# Altium schematic symbol library JBC-Soldering-Controller.SCHLIB: 20 symbols
Pins are listed as number, name and electrical type; pins without a type are passive.

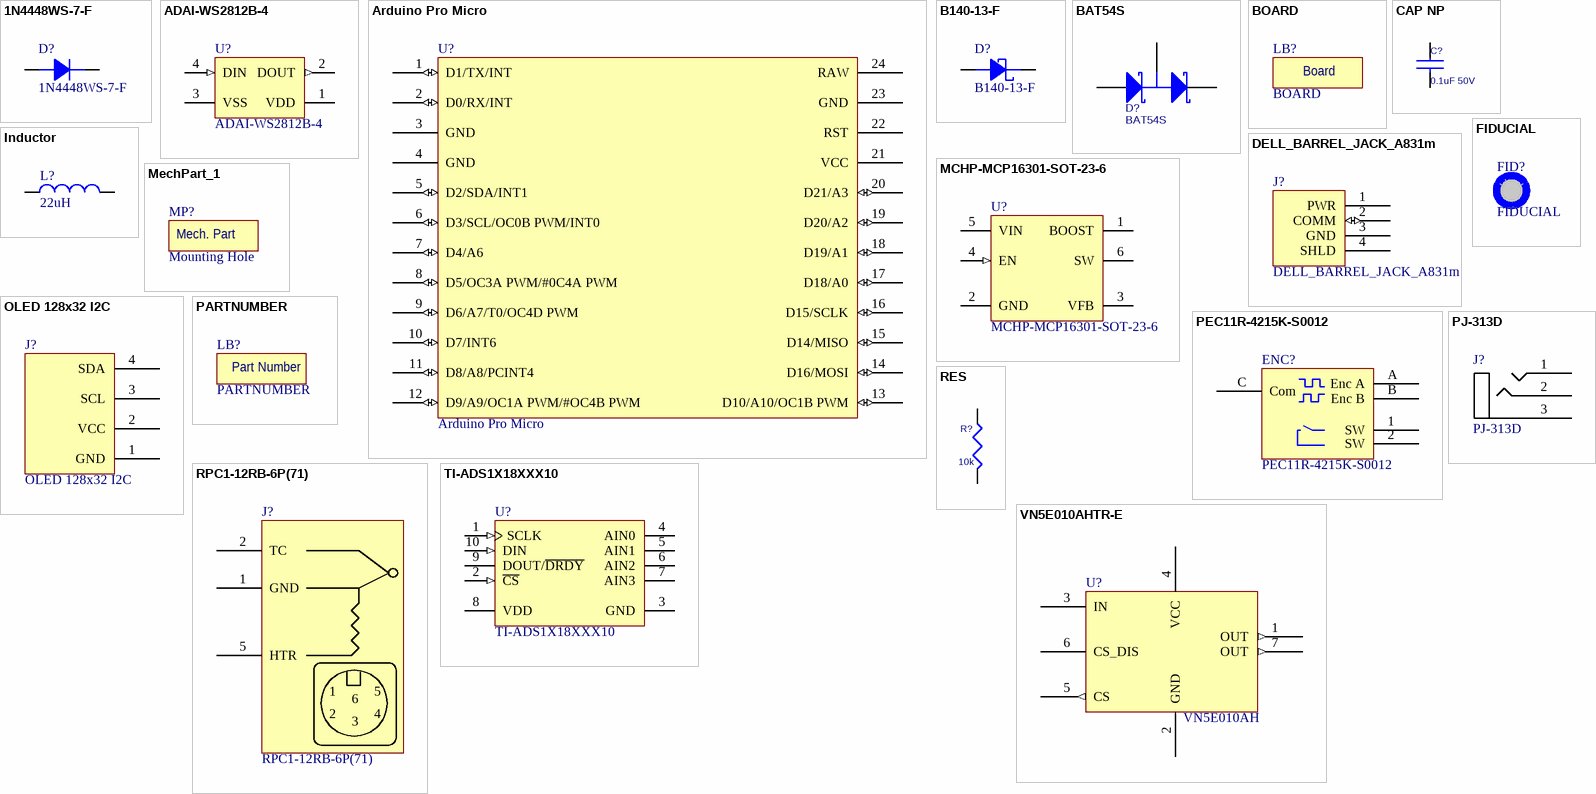
[diagram p0: symbols 1N4448WS-7-F to VN5E010AHTR-E]

## 1N4448WS-7-F
designator D?
DIODE GEN PURP 75V 250MA SOD323; Supplier 1: Digi-Key; Supplier Part Number 1: 1N4448WS-FDICT-ND
footprint 1N4448WS-7-F (SOD323)
pins: A, K

## ADAI-WS2812B-4
designator U?
footprint ADAI-WS2812B_V (SMD, 4-Leads, Body 5x5mm, Pitch 3.3mm)
pins: 1 VDD (power) "Power supply LED", 2 DOUT (out) "Control data signal output", 3 VSS (power) "Ground", 4 DIN (in) "Control data signal input"

## Arduino Pro Micro
designator U?
footprint Arduinno Pro Micro
pins: 1 D1/TX/INT (io), 2 D0/RX/INT (io), 3 GND (power), 4 GND (power), 5 D2/SDA/INT1 (io), 6 D3/SCL/OC0B PWM/INT0 (io), 7 D4/A6 (io), 8 D5/OC3A PWM/#0C4A PWM (io), 9 D6/A7/T0/OC4D PWM (io), 10 D7/INT6 (io), 11 D8/A8/PCINT4 (io), 12 D9/A9/OC1A PWM/#OC4B PWM (io), 13 D10/A10/OC1B PWM (io), 14 D16/MOSI (io), 15 D14/MISO (io), 16 D15/SCLK (io), 17 D18/A0 (io), 18 D19/A1 (io), 19 D20/A2 (io), 20 D21/A3 (io), 21 VCC (power), 22 RST, 23 GND (power), 24 RAW (power)

## B140-13-F
designator D?
DIODE SCHOTTKY 40V 1A SMA; Supplier 1: Digi-Key; Supplier Part Number 1: B140-FDICT-ND
footprint DO-214AC SMA (Diodes Inc. DO-214AC SMA Package)
pins: A, K

## BAT54S
designator D?
DIODE ARRAY SCHOTTKY 30V SOT23-3; Manufacturer Part Number: BAT54SLT1G; Manufacturer: ON Semiconductor; Assembly: SMT; Supplier 1: Digi-Key; Supplier Part Number 1: BAT54SLT1GOSCT-ND; Lead Free Status / RoHS Status: Lead free / RoHS Compliant; Part Status: Active
footprint BAT54SLT1G (SOT23, 3-Leads, Body 2.92x2.37mm, Pitch 0.95mm, IPC Medium Density)
pins: 1 A, 2 K, 3 C

## BOARD
designator LB?  (no BOM)
Board descirptor; Manufacturer Part Number: #N/A; Supplier Part Number 1: NA; ComponentLink1Description: NA; ComponentLink1URL: NA; Supplier 1: NA
footprint LblBoardDescription
text: Board

## CAP NP
designator C?, comment 0.1uF 50V
Capacitor Ceramic *%
footprint CAPC1608N (Chip Capacitor, Body 1.6x0.8mm, IPC Medium Density)
pins: 1, 2

## DELL_BARREL_JACK_A831m
designator J?
footprint DELL_POWER_JACK_A831m
pins: 1 PWR (power), 2 COMM (io) "One Wire Comm.", 3 GND (power), 4 SHLD (power)

## FIDUCIAL
designator FID?  (no BOM)
Board or Local Fiducial mark; Manufacturer Part Number: #N/A; ComponentLink1Description: NA; ComponentLink1URL: NA; Supplier Part Number 1: NA; Supplier 1: NA
footprint FIDUCIAL

## Inductor
designator L?, comment 22uH
145mOhm; Supplier 1: Digi-Key; Supplier Part Number 1: SRN5040-220MCT-ND
footprint SRN5040-220M (FIXED IND 22UH 1.4A 152 MOHM SMD)
pins: 1, 2

## MCHP-MCP16301-SOT-23-6
designator U?
IC REG BUCK ADJ 0.6A SOT23-6
footprint MCP16301 (IC REG BUCK ADJ 0.6A SOT23-6)
pins: 1 BOOST (power) "Boost voltage that drives the internal NMOS control switch. A bootstrap capacitor is connected between the BOOST and SW pins.", 2 GND (power) "Ground Pin", 3 VFB "Output voltage feedback pin. Connect VFB to an external resistor divider to set the output voltage.", 4 EN (in) "Enable pin. Logic high enables the operation. Do not allow this pin to float", 5 VIN (power) "Input supply voltage pin for power and internal biasing.", 6 SW (power) "Output switch node, connects to the inductor, freewheeling diode and the bootstrap capacitor."

## MechPart_1
designator MP?, comment Mounting Hole  (no BOM)
footprint M2_Standoff_Mounting_Hole
text: Mech. Part

## OLED 128x32 I2C
designator J?
footprint OLED 128x32 I2C
pins: 1 GND (power), 2 VCC (power), 3 SCL, 4 SDA

## PARTNUMBER
designator LB?  (no BOM)
Part Number board descriptor; Manufacturer Part Number: #N/A; Supplier Part Number 1: NA; ComponentLink1Description: NA; ComponentLink1URL: NA; Supplier 1: NA
footprint LblPartNumber
text: Part Number

## PEC11R-4215K-S0012
designator ENC?
Bourns rotary encoder
footprint PEC11R-4215K-S0012 (Bourns Rotary Encoder with Button- IMPORTANT! Footprint has been modified and requires the tabs are bent flat prior to insertion)
pins: 1 SW, 2 SW, A Enc A, B Enc B, C Com

## PJ-313D
designator J?
footprint PJ-313D (Audio Jack)
pins: 1, 2, 3

## RES
designator R?, comment 10k
Resistor 1%
footprint RESC1608N (Chip Resistor, Body 1.6x0.8mm, IPC Medium Density)
pins: 1, 2

## RPC1-12RB-6P(71)
designator J?
Hirose  CONN RECEPT 6 POS W/PINS
footprint Hirose-RPC1
pins: 1 GND, 2 TC, 5 HTR
text: 6; 4; 3

## TI-ADS1X18XXX10
designator U?
footprint ADS1118 (VSOP)
pins: 1 SCLK (in) "Serial clock input", 2 ~{CS} (in) "Chip select; active low", 3 GND (power) "Ground", 4 AIN0 "Differential channel 1: positive input or single-ended channel 1 input", 5 AIN1 "Differential channel 1: negative input or single-ended channel 2 input", 6 AIN2 "Differential channel 2: positive input or single-ended channel 3 input", 7 AIN3 "Differential channel 2: negative input or single-ended channel 4 input", 8 VDD (power) "Power supply: 2.0 V to 5.5 V", 9 DOUT/~{DRDY} "Serial data out combined with data ready; active low", 10 DIN (in) "Serial data input"

## VN5E010AHTR-E
designator U?, comment VN5E010AH
10 m high-side driver with analog current sense  for automotive applications
footprint VN5E010AH (10 mOhm high-side driver with analog current sense  for automotive applications)
pins: 1 OUT (out), 2 GND (power), 3 IN, 4 VCC (power), 5 CS (out), 6 CS_DIS, 7 OUT (out)